# Altium footprint library CSS2H-2512.PcbLib: 1 footprints
Each footprint in its own frame and in the unit in brackets; x right, y up, seen from the top. Pads: shape width x height; smd on the part's side, far side on the other; paste and mask are expansions set on the pad; w line width, h text height; cw(c..) or ccw(c..) is an arc to the next point about the centre after c.
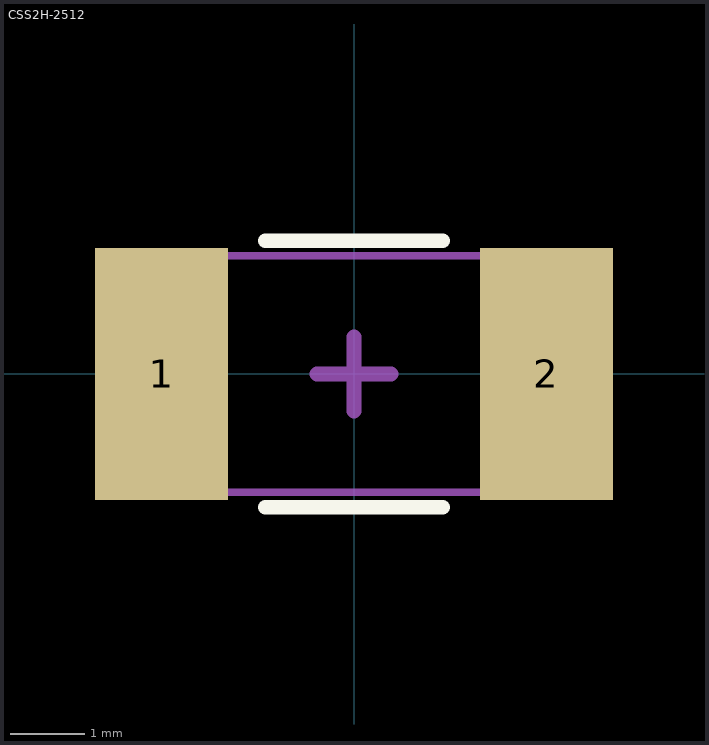
[diagram p0: the footprint, top view; thin cyan lines are the x and y axes]

## CSS2H-2512 [mm]
pads (2):
  rect 1.8x3.4 smd mask+0: 1(-2.6,0) 2(2.6,0)
Top Overlay:
  lines w0.2: -1.2,-1.8 1.2,-1.8 ; -1.2,1.8 1.2,1.8
Mechanical 13:
  lines w0.1: -3.2,-1.6 -3.2,1.6 3.1,1.6 3.1,-1.6 -3.2,-1.6
Mechanical 15:
  lines w0.2: -0.5,0 0,0 ; 0,-0.5 0,0 ; 0,0.5 0,0 ; 0.5,0 0,0
3D body "2-2176070-9.stp": height 0.56, standoff 0.01, extent -3.15,-1.6 3.15,1.6